# Altium schematic symbol library Device.SchLib: 595 symbols (part 1 of 4)
Pins are listed as number, name and electrical type; pins without a type are passive.

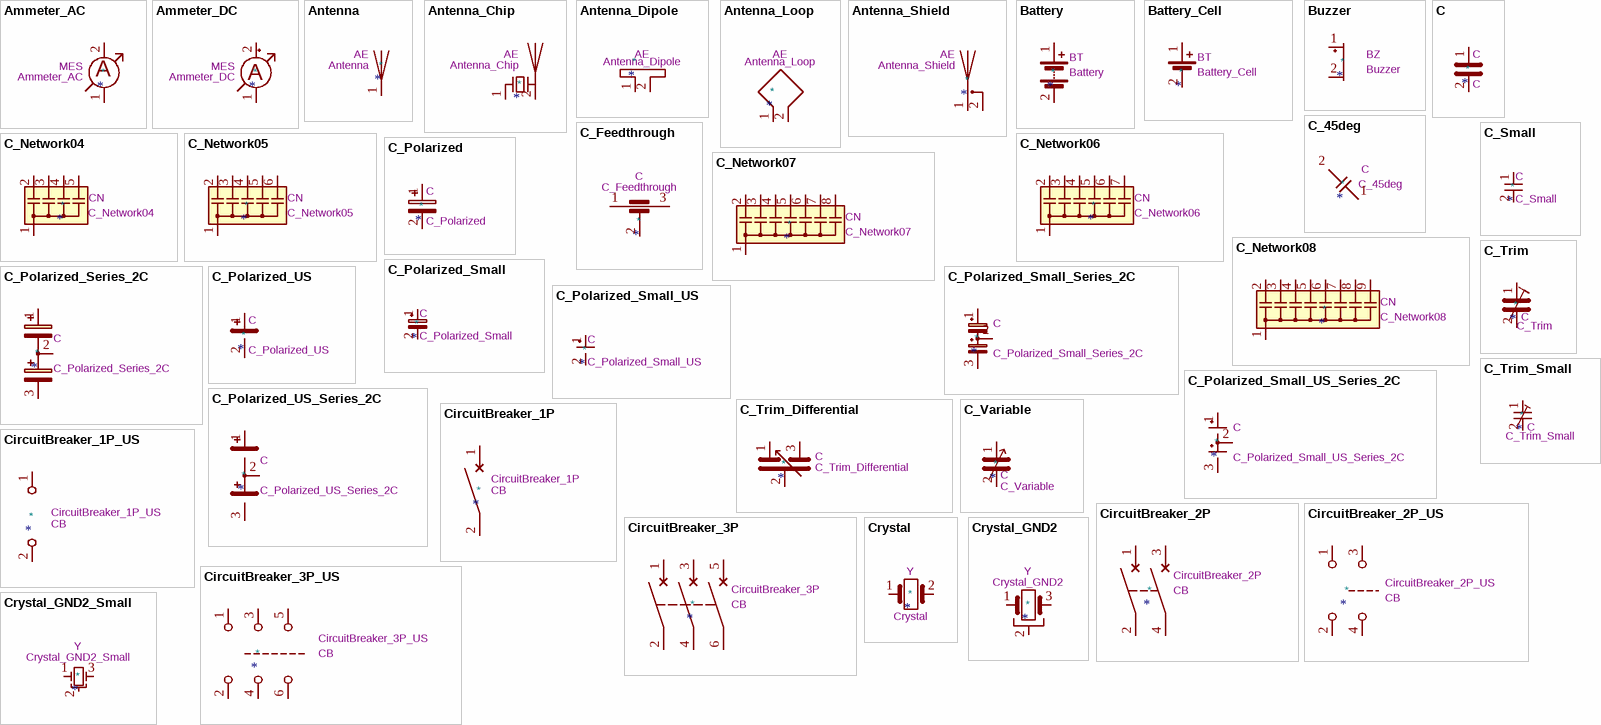
[diagram p0: symbols Ammeter_AC to Crystal_GND2_Small]

## Ammeter_AC
designator *  value Ammeter_AC  Reference: MES
AC ammeter; ki_keywords: ammeter AC ampere meter; Datasheet: ~; Description_: AC ammeter
pins: 1, 2
text: A

## Ammeter_DC
designator *  value Ammeter_DC  Reference: MES
DC ammeter; ki_keywords: ammeter DC ampere meter; Datasheet: ~; Description_: DC ammeter
pins: 1 -, 2 +
text: A

## Antenna
designator *  value Antenna  Reference: AE
Antenna; Datasheet: ~; Description_: Antenna; ki_keywords: antenna
pins: 1 A

## Antenna_Chip
designator *  value Antenna_Chip  Reference: AE
Ceramic chip antenna with pin for PCB trace; Datasheet: ~; Description_: Ceramic chip antenna with pin for PCB trace; ki_keywords: antenna
pins: 1 FEED, 2 PCB_Trace

## Antenna_Dipole
designator *  value Antenna_Dipole  Reference: AE
Dipole antenna; Datasheet: ~; Description_: Dipole antenna; ki_keywords: dipole antenna
pins: 1, 2

## Antenna_Loop
designator *  value Antenna_Loop  Reference: AE
Loop antenna; Datasheet: ~; Description_: Loop antenna; ki_keywords: loop antenna
pins: 1, 2

## Antenna_Shield
designator *  value Antenna_Shield  Reference: AE
Antenna with extra pin for shielding; Datasheet: ~; Description_: Antenna with extra pin for shielding; ki_keywords: antenna
pins: 1 A, 2 Shield

## Battery
designator *  value Battery  Reference: BT
Multiple-cell battery; ki_keywords: batt voltage-source cell; Datasheet: ~; Description_: Multiple-cell battery
pins: 1 +, 2 -

## Battery_Cell
designator *  value Battery_Cell  Reference: BT
Single-cell battery; ki_keywords: battery cell; Datasheet: ~; Description_: Single-cell battery
pins: 1 +, 2 -

## Buzzer
designator *  value Buzzer  Reference: BZ
Buzzer, polarized; ki_keywords: quartz resonator ceramic; ki_fp_filters: *Buzzer*; Datasheet: ~; Description_: Buzzer, polarized
pins: 1 +, 2 -

## C
designator *  value C
Unpolarized capacitor; ki_keywords: cap capacitor; ki_fp_filters: C_*; Reference: C; Datasheet: ~; Description_: Unpolarized capacitor
pins: 1, 2

## C_45deg
designator *  value C_45deg  Reference: C
Unpolarized capacitor, rotated by 45°; ki_keywords: capacitor cap; ki_fp_filters: R_*; Datasheet: ~; Description_: Unpolarized capacitor, rotated by 45°
pins: 1, 2

## C_Feedthrough
designator *  value C_Feedthrough  Reference: C
Feedthrough capacitor; ki_keywords: EMI filter feedthrough capacitor; Datasheet: ~; Description_: Feedthrough capacitor
pins: 1, 2, 3

## C_Network04
designator *  value C_Network04  Reference: CN
4 capacitor network, star topology, bussed capacitors, single bus pin, small symbol, SIP-5; ki_keywords: C network star-topology; ki_fp_filters: C*Array* SIP*; Datasheet: ~; Description_: 4 capacitor network, star topology, bussed capacitors, single bus pin, small symbol, SIP-5
pins: 1 common, 2 C1, 3 C2, 4 C3, 5 C4

## C_Network05
designator *  value C_Network05  Reference: CN
5 capacitor network, star topology, bussed capacitors, single bus pin, small symbol, SIP-6; ki_keywords: C network star-topology; ki_fp_filters: C*Array* SIP*; Datasheet: ~; Description_: 5 capacitor network, star topology, bussed capacitors, single bus pin, small symbol, SIP-6
pins: 1 common, 2 C1, 3 C2, 4 C3, 5 C4, 6 C5

## C_Network06
designator *  value C_Network06  Reference: CN
6 capacitor network, star topology, bussed capacitors, single bus pin, small symbol, SIP-7; ki_keywords: C network star-topology; ki_fp_filters: C*Array* SIP*; Datasheet: ~; Description_: 6 capacitor network, star topology, bussed capacitors, single bus pin, small symbol, SIP-7
pins: 1 common, 2 C1, 3 C2, 4 C3, 5 C4, 6 C5, 7 C6

## C_Network07
designator *  value C_Network07  Reference: CN
7 capacitor network, star topology, bussed capacitors, single bus pin, small symbol, SIP-8; ki_keywords: C network star-topology; ki_fp_filters: C*Array* SIP*; Datasheet: ~; Description_: 7 capacitor network, star topology, bussed capacitors, single bus pin, small symbol, SIP-8
pins: 1 common, 2 C1, 3 C2, 4 C3, 5 C4, 6 C5, 7 C6, 8 C7

## C_Network08
designator *  value C_Network08  Reference: CN
8 capacitor network, star topology, bussed capacitors, single bus pin, small symbol, SIP-9; ki_keywords: C network star-topology; ki_fp_filters: C*Array* SIP*; Datasheet: ~; Description_: 8 capacitor network, star topology, bussed capacitors, single bus pin, small symbol, SIP-9
pins: 1 common, 2 C1, 3 C2, 4 C3, 5 C4, 6 C5, 7 C6, 8 C7, 9 C8

## C_Polarized
designator *  value C_Polarized  Reference: C
Polarized capacitor; ki_keywords: cap capacitor; ki_fp_filters: CP_*; Datasheet: ~; Description_: Polarized capacitor
pins: 1, 2

## C_Polarized_Series_2C
designator *  value C_Polarized_Series_2C  Reference: C
Set of two polarized capacitors in series; ki_keywords: cap capacitor; ki_fp_filters: CP*; Datasheet: ~; Description_: Set of two polarized capacitors in series
pins: 1, 2, 3

## C_Polarized_Small
designator *  value C_Polarized_Small  Reference: C
Polarized capacitor, small symbol; ki_keywords: cap capacitor; ki_fp_filters: CP_*; Datasheet: ~; Description_: Polarized capacitor, small symbol
pins: 1, 2

## C_Polarized_Small_Series_2C
designator *  value C_Polarized_Small_Series_2C  Reference: C
Set of two polarized capacitors in series, small symbol; ki_keywords: cap capacitor; ki_fp_filters: CP*; Datasheet: ~; Description_: Set of two polarized capacitors in series, small symbol
pins: 1, 2, 3

## C_Polarized_Small_US
designator *  value C_Polarized_Small_US  Reference: C
Polarized capacitor, small US symbol; ki_keywords: cap capacitor; ki_fp_filters: CP_*; Datasheet: ~; Description_: Polarized capacitor, small US symbol
pins: 1, 2

## C_Polarized_Small_US_Series_2C
designator *  value C_Polarized_Small_US_Series_2C  Reference: C
Polarized capacitor, small US symbol; ki_keywords: cap capacitor; ki_fp_filters: CP*; Datasheet: ~; Description_: Polarized capacitor, small US symbol
pins: 1, 2, 3

## C_Polarized_US
designator *  value C_Polarized_US  Reference: C
Polarized capacitor, US symbol; ki_keywords: cap capacitor; ki_fp_filters: CP_*; Datasheet: ~; Description_: Polarized capacitor, US symbol
pins: 1, 2

## C_Polarized_US_Series_2C
designator *  value C_Polarized_US_Series_2C  Reference: C
Polarized capacitor, US symbol; ki_keywords: cap capacitor; ki_fp_filters: CP*; Datasheet: ~; Description_: Polarized capacitor, US symbol
pins: 1, 2, 3

## C_Small
designator *  value C_Small  Reference: C
Unpolarized capacitor, small symbol; ki_keywords: capacitor cap; ki_fp_filters: C_*; Datasheet: ~; Description_: Unpolarized capacitor, small symbol
pins: 1, 2

## C_Trim
designator *  value C_Trim  Reference: C
Trimmable capacitor; ki_keywords: trimmer variable capacitor; Datasheet: ~; Description_: Trimmable capacitor
pins: 1, 2

## C_Trim_Differential
designator *  value C_Trim_Differential  Reference: C
Differential variable capacitor with two stators; ki_keywords: trimmer capacitor; Datasheet: ~; Description_: Differential variable capacitor with two stators
pins: 1, 2, 3

## C_Trim_Small
designator *  value C_Trim_Small  Reference: C
Trimmable capacitor, small symbol; ki_keywords: trimmer variable capacitor; ki_fp_filters: C_*; Datasheet: ~; Description_: Trimmable capacitor, small symbol
pins: 1, 2

## C_Variable
designator *  value C_Variable  Reference: C
Variable capacitor; ki_keywords: trimmer capacitor; Datasheet: ~; Description_: Variable capacitor
pins: 1, 2

## CircuitBreaker_1P
designator *  value CircuitBreaker_1P  Reference: CB
Single pole circuit breaker; Datasheet: ~; Description_: Single pole circuit breaker; ki_keywords: CB
pins: 1, 2

## CircuitBreaker_1P_US
designator *  value CircuitBreaker_1P_US  Reference: CB
Single pole circuit breaker, US symbol; Datasheet: ~; Description_: Single pole circuit breaker, US symbol; ki_keywords: CB
pins: 1, 2

## CircuitBreaker_2P
designator *  value CircuitBreaker_2P  Reference: CB
Double pole circuit breaker; ki_keywords: CB 2P; Datasheet: ~; Description_: Double pole circuit breaker
pins: 1, 2, 3, 4

## CircuitBreaker_2P_US
designator *  value CircuitBreaker_2P_US  Reference: CB
Double pole circuit breaker, US symbol; ki_keywords: CB 2P; Datasheet: ~; Description_: Double pole circuit breaker, US symbol
pins: 1, 2, 3, 4

## CircuitBreaker_3P
designator *  value CircuitBreaker_3P  Reference: CB
Triple pole circuit breaker; ki_keywords: CB 3P; Datasheet: ~; Description_: Triple pole circuit breaker
pins: 1, 2, 3, 4, 5, 6

## CircuitBreaker_3P_US
designator *  value CircuitBreaker_3P_US  Reference: CB
Triple pole circuit breaker, US symbol; ki_keywords: CB 3P; Datasheet: ~; Description_: Triple pole circuit breaker, US symbol
pins: 1, 2, 3, 4, 5, 6

## Crystal
designator *  value Crystal  Reference: Y
Two pin crystal; ki_keywords: quartz ceramic resonator oscillator; ki_fp_filters: Crystal*; Datasheet: ~; Description_: Two pin crystal
pins: 1, 2

## Crystal_GND2
designator *  value Crystal_GND2  Reference: Y
Three pin crystal, GND on pin 2; ki_keywords: quartz ceramic resonator oscillator; ki_fp_filters: Crystal*; Datasheet: ~; Description_: Three pin crystal, GND on pin 2
pins: 1, 2, 3

## Crystal_GND2_Small
designator *  value Crystal_GND2_Small  Reference: Y
Three pin crystal, GND on pin 2, small symbol; ki_keywords: quartz ceramic resonator oscillator; ki_fp_filters: Crystal*; Datasheet: ~; Description_: Three pin crystal, GND on pin 2, small symbol
pins: 1, 2, 3

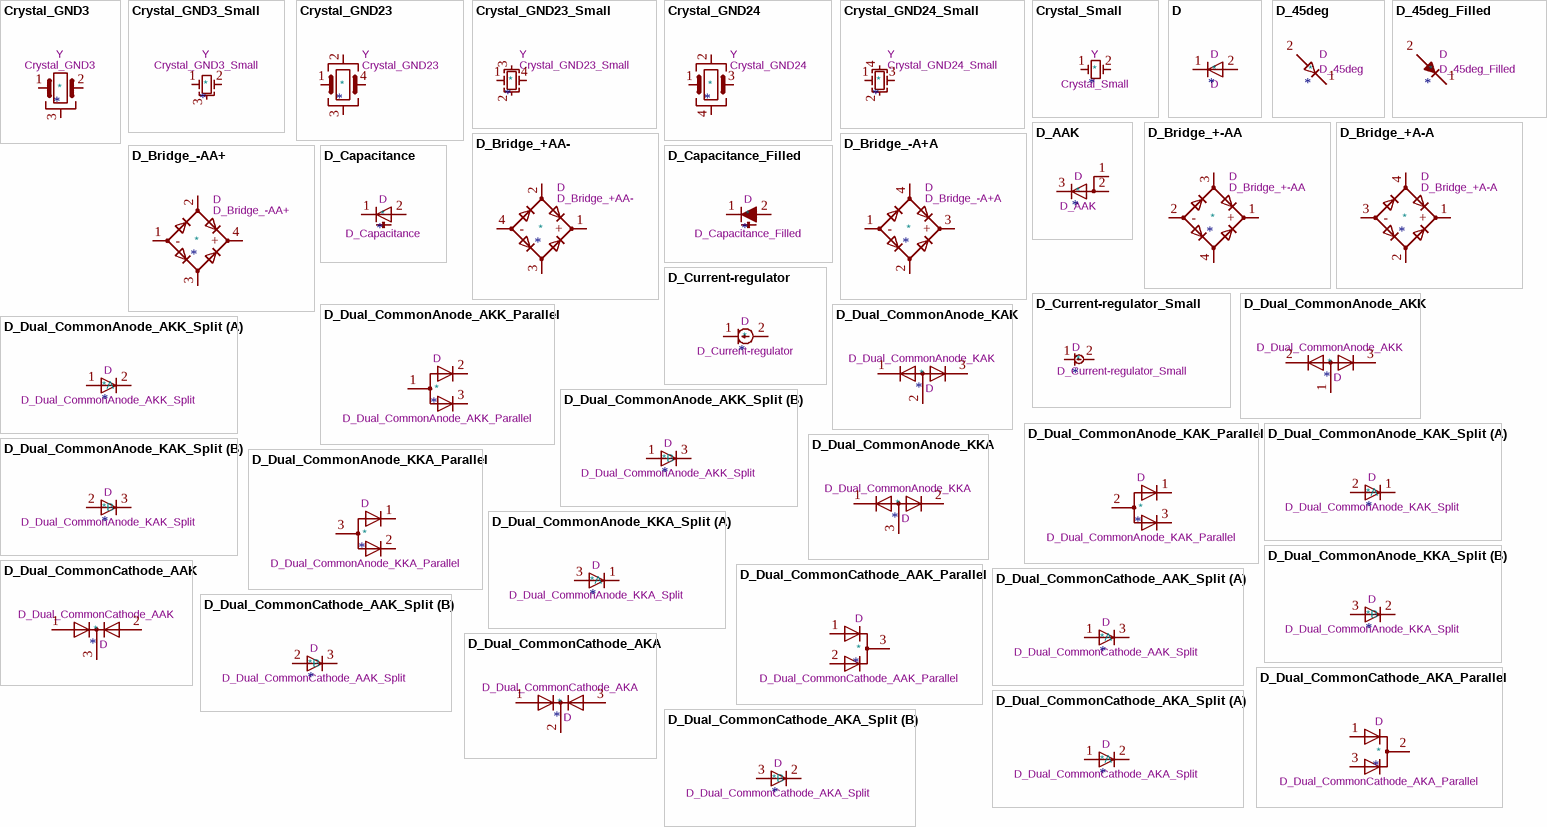
[diagram p1: symbols Crystal_GND3 to D_Dual_CommonCathode_AKA_Split]

## Crystal_GND3
designator *  value Crystal_GND3  Reference: Y
Three pin crystal, GND on pin 3; ki_keywords: quartz ceramic resonator oscillator; ki_fp_filters: Crystal*; Datasheet: ~; Description_: Three pin crystal, GND on pin 3
pins: 1, 2, 3

## Crystal_GND3_Small
designator *  value Crystal_GND3_Small  Reference: Y
Three pin crystal, GND on pin 3, small symbol; ki_keywords: quartz ceramic resonator oscillator; ki_fp_filters: Crystal*; Datasheet: ~; Description_: Three pin crystal, GND on pin 3, small symbol
pins: 1, 2, 3

## Crystal_GND23
designator *  value Crystal_GND23  Reference: Y
Four pin crystal, GND on pins 2 and 3; ki_keywords: quartz ceramic resonator oscillator; ki_fp_filters: Crystal*; Datasheet: ~; Description_: Four pin crystal, GND on pins 2 and 3
pins: 1, 2, 3, 4

## Crystal_GND23_Small
designator *  value Crystal_GND23_Small  Reference: Y
Four pin crystal, GND on pins 2 and 3, small symbol; ki_keywords: quartz ceramic resonator oscillator; ki_fp_filters: Crystal*; Datasheet: ~; Description_: Four pin crystal, GND on pins 2 and 3, small symbol
pins: 1, 2, 3, 4

## Crystal_GND24
designator *  value Crystal_GND24  Reference: Y
Four pin crystal, GND on pins 2 and 4; ki_keywords: quartz ceramic resonator oscillator; ki_fp_filters: Crystal*; Datasheet: ~; Description_: Four pin crystal, GND on pins 2 and 4
pins: 1, 2, 3, 4

## Crystal_GND24_Small
designator *  value Crystal_GND24_Small  Reference: Y
Four pin crystal, GND on pins 2 and 4, small symbol; ki_keywords: quartz ceramic resonator oscillator; ki_fp_filters: Crystal*; Datasheet: ~; Description_: Four pin crystal, GND on pins 2 and 4, small symbol
pins: 1, 2, 3, 4

## Crystal_Small
designator *  value Crystal_Small  Reference: Y
Two pin crystal, small symbol; ki_keywords: quartz ceramic resonator oscillator; ki_fp_filters: Crystal*; Datasheet: ~; Description_: Two pin crystal, small symbol
pins: 1, 2

## D
designator *  value D
Diode; Sim.Pins: 1=K 2=A; ki_fp_filters: TO-???* *_Diode_* *SingleDiode* D_*; Reference: D; Datasheet: ~; Description_: Diode; Sim.Device: D; ki_keywords: diode
pins: 1 K, 2 A

## D_45deg
designator *  value D_45deg  Reference: D
Diode, rotated by 45°; Sim.Pins: 1=K 2=A; ki_fp_filters: D*Bridge* D*Rectifier*; Datasheet: ~; Description_: Diode, rotated by 45°; Sim.Device: D; ki_keywords: Diode
pins: 1 K, 2 A

## D_45deg_Filled
designator *  value D_45deg_Filled  Reference: D
Diode, filled, rotated by 45°; Sim.Pins: 1=K 2=A; ki_fp_filters: D*Bridge* D*Rectifier*; Datasheet: ~; Description_: Diode, filled, rotated by 45°; Sim.Device: D; ki_keywords: Diode
pins: 1 K, 2 A

## D_AAK
designator *  value D_AAK  Reference: D
Diode, anode on pins 1 and 2; ki_fp_filters: TO-???* *_Diode_* *SingleDiode* D_*; Datasheet: ~; Description_: Diode, anode on pins 1 and 2; ki_keywords: diode
pins: 1 A, 2 A, 3 K

## D_Bridge_+-AA
designator *  value D_Bridge_+-AA  Reference: D
Diode bridge, +ve/-ve/AC/AC; ki_keywords: rectifier ACDC; ki_fp_filters: D*Bridge* D*Rectifier*; Datasheet: ~; Description_: Diode bridge, +ve/-ve/AC/AC
pins: 1 +, 2 -, 3, 4

## D_Bridge_+A-A
designator *  value D_Bridge_+A-A  Reference: D
Diode bridge, +ve/AC/-ve/AC; ki_keywords: rectifier ACDC; ki_fp_filters: D*Bridge* D*Rectifier*; Datasheet: ~; Description_: Diode bridge, +ve/AC/-ve/AC
pins: 1 +, 2, 3 -, 4

## D_Bridge_+AA-
designator *  value D_Bridge_+AA-  Reference: D
Diode bridge, +ve/AC/AC/-ve; ki_keywords: rectifier ACDC; ki_fp_filters: D*Bridge* D*Rectifier*; Datasheet: ~; Description_: Diode bridge, +ve/AC/AC/-ve
pins: 1 +, 2, 3, 4 -

## D_Bridge_-A+A
designator *  value D_Bridge_-A+A  Reference: D
Diode bridge, -ve/AC/+ve/AC; ki_keywords: rectifier ACDC; ki_fp_filters: D*Bridge* D*Rectifier*; Datasheet: ~; Description_: Diode bridge, -ve/AC/+ve/AC
pins: 1 -, 2, 3 +, 4

## D_Bridge_-AA+
designator *  value D_Bridge_-AA+  Reference: D
Diode bridge, -ve/AC/AC/+ve; ki_keywords: rectifier ACDC; ki_fp_filters: D*Bridge* D*Rectifier*; Datasheet: ~; Description_: Diode bridge, -ve/AC/AC/+ve
pins: 1 -, 2, 3, 4 +

## D_Capacitance
designator *  value D_Capacitance  Reference: D
Variable capacitance diode; ki_keywords: capacitance diode varicap varactor; ki_fp_filters: TO-???* *_Diode_* *SingleDiode* D_*; Datasheet: ~; Description_: Variable capacitance diode
pins: 1 K, 2 A

## D_Capacitance_Filled
designator *  value D_Capacitance_Filled  Reference: D
Variable capacitance diode, filled shape; ki_keywords: capacitance diode varicap varactor; ki_fp_filters: TO-???* *_Diode_* *SingleDiode* D_*; Datasheet: ~; Description_: Variable capacitance diode, filled shape
pins: 1 K, 2 A

## D_Current-regulator
designator *  value D_Current-regulator  Reference: D
Constant-current diode / current limiting diode / current regulator diode, IEC60747-3:2013; ki_keywords: diode constant-current current limit regulator; ki_fp_filters: TO-???* D_*; Datasheet: ~; Description_: Constant-current diode / current limiting diode / current regulator diode, IEC60747-3:2013
pins: 1 K, 2 A

## D_Current-regulator_Small
designator *  value D_Current-regulator_Small  Reference: D
Constant-current diode / current limiting diode / current regulator diode, IEC60747-3:2013, small symbol; ki_keywords: diode constant-current current limit regulator; ki_fp_filters: TO-???* D_*; Datasheet: ~; Description_: Constant-current diode / current limiting diode / current regulator diode, IEC60747-3:2013, small symbol
pins: 1 K, 2 A

## D_Dual_CommonAnode_AKK
designator *  value D_Dual_CommonAnode_AKK  Reference: D
Dual diode, common anode on pin 1; Datasheet: ~; Description_: Dual diode, common anode on pin 1; ki_keywords: diode
pins: 1 A, 2 K, 3 K

## D_Dual_CommonAnode_AKK_Parallel
designator *  value D_Dual_CommonAnode_AKK_Parallel  Reference: D
Dual diode, common anode on pin 1; Datasheet: ~; Description_: Dual diode, common anode on pin 1; ki_keywords: diode
pins: 1 A, 2 K, 3 K

## D_Dual_CommonAnode_AKK_Split
designator *  value D_Dual_CommonAnode_AKK_Split  Reference: D
Dual diode, common anode on pin 1; Datasheet: ~; Description_: Dual diode, common anode on pin 1; ki_keywords: diode
part A pins: 1 A, 2 K
part B pins: 1 A, 3 K

## D_Dual_CommonAnode_KAK
designator *  value D_Dual_CommonAnode_KAK  Reference: D
Dual diode, common anode on pin 2; Datasheet: ~; Description_: Dual diode, common anode on pin 2; ki_keywords: diode
pins: 1 K, 2 A, 3 K

## D_Dual_CommonAnode_KAK_Parallel
designator *  value D_Dual_CommonAnode_KAK_Parallel  Reference: D
Dual diode, common anode on pin 1; Datasheet: ~; Description_: Dual diode, common anode on pin 1; ki_keywords: diode
pins: 1 K, 2 A, 3 K

## D_Dual_CommonAnode_KAK_Split
designator *  value D_Dual_CommonAnode_KAK_Split  Reference: D
Dual diode, common anode on pin 1; Datasheet: ~; Description_: Dual diode, common anode on pin 1; ki_keywords: diode
part A pins: 1 K, 2 A
part B pins: 2 A, 3 K

## D_Dual_CommonAnode_KKA
designator *  value D_Dual_CommonAnode_KKA  Reference: D
Dual diode, common anode on pin 3; Datasheet: ~; Description_: Dual diode, common anode on pin 3; ki_keywords: diode
pins: 1 K, 2 K, 3 A

## D_Dual_CommonAnode_KKA_Parallel
designator *  value D_Dual_CommonAnode_KKA_Parallel  Reference: D
Dual diode, common anode on pin 1; Datasheet: ~; Description_: Dual diode, common anode on pin 1; ki_keywords: diode
pins: 1 K, 2 K, 3 A

## D_Dual_CommonAnode_KKA_Split
designator *  value D_Dual_CommonAnode_KKA_Split  Reference: D
Dual diode, common anode on pin 1; Datasheet: ~; Description_: Dual diode, common anode on pin 1; ki_keywords: diode
part A pins: 1 K, 3 A
part B pins: 2 K, 3 A

## D_Dual_CommonCathode_AAK
designator *  value D_Dual_CommonCathode_AAK  Reference: D
Dual diode, common cathode on pin 3; Datasheet: ~; Description_: Dual diode, common cathode on pin 3; ki_keywords: diode
pins: 1 A, 2 A, 3 K

## D_Dual_CommonCathode_AAK_Parallel
designator *  value D_Dual_CommonCathode_AAK_Parallel  Reference: D
Dual diode, common cathode on pin 1; Datasheet: ~; Description_: Dual diode, common cathode on pin 1; ki_keywords: diode
pins: 1 A, 2 A, 3 K

## D_Dual_CommonCathode_AAK_Split
designator *  value D_Dual_CommonCathode_AAK_Split  Reference: D
Dual diode, common cathode on pin 1; Datasheet: ~; Description_: Dual diode, common cathode on pin 1; ki_keywords: diode
part A pins: 1 A, 3 K
part B pins: 2 A, 3 K

## D_Dual_CommonCathode_AKA
designator *  value D_Dual_CommonCathode_AKA  Reference: D
Dual diode, common cathode on pin 2; Datasheet: ~; Description_: Dual diode, common cathode on pin 2; ki_keywords: diode
pins: 1 A, 2 K, 3 A

## D_Dual_CommonCathode_AKA_Parallel
designator *  value D_Dual_CommonCathode_AKA_Parallel  Reference: D
Dual diode, common cathode on pin 1; Datasheet: ~; Description_: Dual diode, common cathode on pin 1; ki_keywords: diode
pins: 1 A, 2 K, 3 A

## D_Dual_CommonCathode_AKA_Split
designator *  value D_Dual_CommonCathode_AKA_Split  Reference: D
Dual diode, common cathode on pin 1; Datasheet: ~; Description_: Dual diode, common cathode on pin 1; ki_keywords: diode
part A pins: 1 A, 2 K
part B pins: 2 K, 3 A

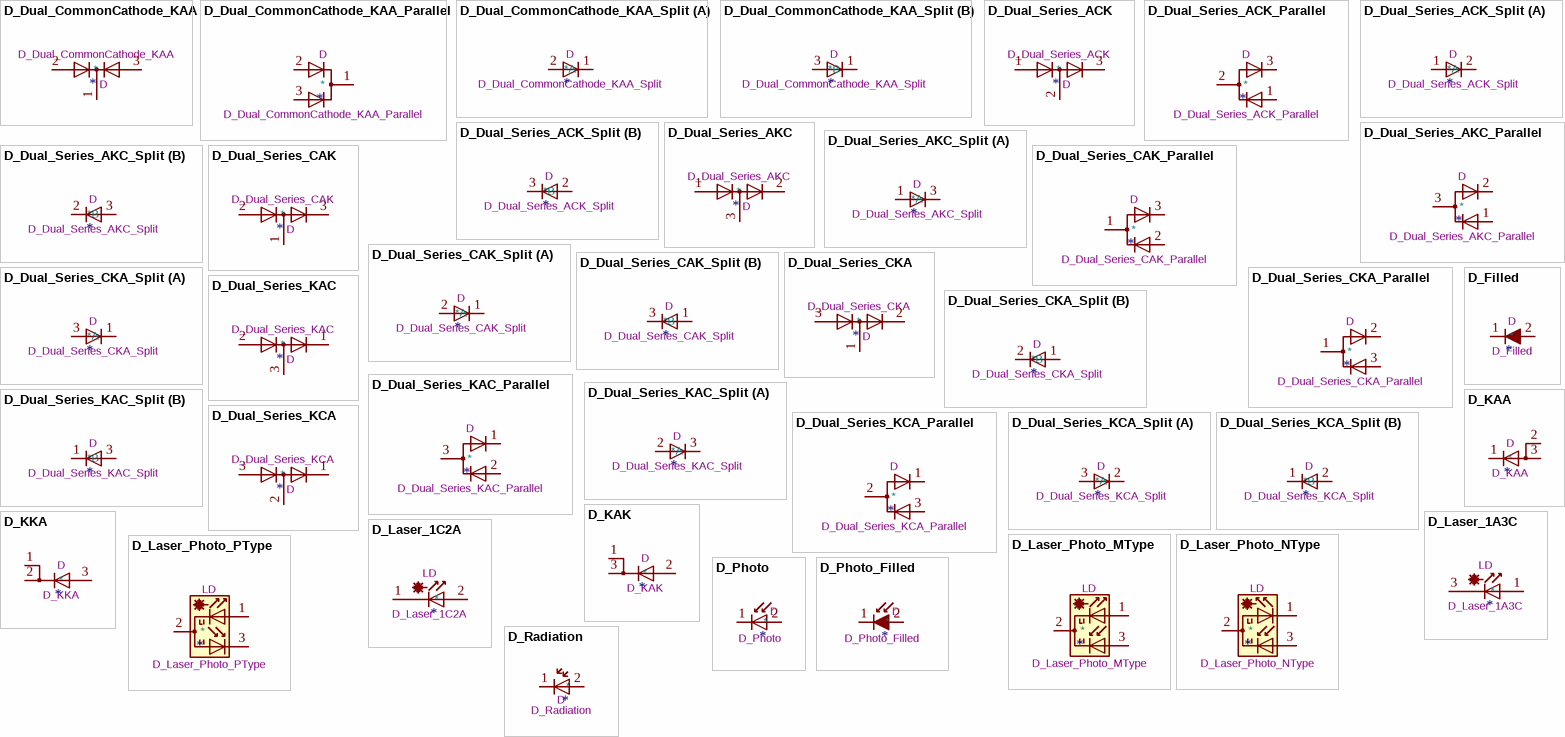
[diagram p2: symbols D_Dual_CommonCathode_KAA to D_Radiation]

## D_Dual_CommonCathode_KAA
designator *  value D_Dual_CommonCathode_KAA  Reference: D
Dual diode, common cathode on pin 1; Datasheet: ~; Description_: Dual diode, common cathode on pin 1; ki_keywords: diode
pins: 1 K, 2 A, 3 A

## D_Dual_CommonCathode_KAA_Parallel
designator *  value D_Dual_CommonCathode_KAA_Parallel  Reference: D
Dual diode, common cathode on pin 1; Datasheet: ~; Description_: Dual diode, common cathode on pin 1; ki_keywords: diode
pins: 1 K, 2 A, 3 A

## D_Dual_CommonCathode_KAA_Split
designator *  value D_Dual_CommonCathode_KAA_Split  Reference: D
Dual diode, common cathode on pin 1; Datasheet: ~; Description_: Dual diode, common cathode on pin 1; ki_keywords: diode
part A pins: 1 K, 2 A
part B pins: 1 K, 3 A

## D_Dual_Series_ACK
designator *  value D_Dual_Series_ACK  Reference: D
Dual diode, anode/center/cathode; Datasheet: ~; Description_: Dual diode, anode/center/cathode; ki_keywords: diode
pins: 1 A, 2 common, 3 K

## D_Dual_Series_ACK_Parallel
designator *  value D_Dual_Series_ACK_Parallel  Reference: D
Dual diode, anode/center/cathode; Datasheet: ~; Description_: Dual diode, anode/center/cathode; ki_keywords: diode
pins: 1 A, 2 common, 3 K

## D_Dual_Series_ACK_Split
designator *  value D_Dual_Series_ACK_Split  Reference: D
Dual diode, anode/center/cathode; Datasheet: ~; Description_: Dual diode, anode/center/cathode; ki_keywords: diode
part A pins: 1 A, 2 common
part B pins: 2 common, 3 K

## D_Dual_Series_AKC
designator *  value D_Dual_Series_AKC  Reference: D
Dual diode, anode/cathode/center; Datasheet: ~; Description_: Dual diode, anode/cathode/center; ki_keywords: diode
pins: 1 A, 2 K, 3 common

## D_Dual_Series_AKC_Parallel
designator *  value D_Dual_Series_AKC_Parallel  Reference: D
Dual diode, anode/cathode/center; Datasheet: ~; Description_: Dual diode, anode/cathode/center; ki_keywords: diode
pins: 1 A, 2 K, 3 common

## D_Dual_Series_AKC_Split
designator *  value D_Dual_Series_AKC_Split  Reference: D
Dual diode, anode/cathode/center; Datasheet: ~; Description_: Dual diode, anode/cathode/center; ki_keywords: diode
part A pins: 1 A, 3 K
part B pins: 2 common, 3 K

## D_Dual_Series_CAK
designator *  value D_Dual_Series_CAK  Reference: D
Dual diode, center/anode/cathode; Datasheet: ~; Description_: Dual diode, center/anode/cathode; ki_keywords: diode
pins: 1 common, 2 A, 3 K

## D_Dual_Series_CAK_Parallel
designator *  value D_Dual_Series_CAK_Parallel  Reference: D
Dual diode, center/anode/cathode; Datasheet: ~; Description_: Dual diode, center/anode/cathode; ki_keywords: diode
pins: 1 common, 2 A, 3 K

## D_Dual_Series_CAK_Split
designator *  value D_Dual_Series_CAK_Split  Reference: D
Dual diode, center/anode/cathode; Datasheet: ~; Description_: Dual diode, center/anode/cathode; ki_keywords: diode
part A pins: 1 common, 2 A
part B pins: 1 common, 3 K

## D_Dual_Series_CKA
designator *  value D_Dual_Series_CKA  Reference: D
Dual diode, center/cathode/anode; Datasheet: ~; Description_: Dual diode, center/cathode/anode; ki_keywords: diode
pins: 1 common, 2 K, 3 A

## D_Dual_Series_CKA_Parallel
designator *  value D_Dual_Series_CKA_Parallel  Reference: D
Dual diode, center/cathode/anode; Datasheet: ~; Description_: Dual diode, center/cathode/anode; ki_keywords: diode
pins: 1 common, 2 K, 3 A

## D_Dual_Series_CKA_Split
designator *  value D_Dual_Series_CKA_Split  Reference: D
Dual diode, center/cathode/anode; Datasheet: ~; Description_: Dual diode, center/cathode/anode; ki_keywords: diode
part A pins: 1 common, 3 A
part B pins: 1 common, 2 K

## D_Dual_Series_KAC
designator *  value D_Dual_Series_KAC  Reference: D
Dual diode, cathode/anode/center; Datasheet: ~; Description_: Dual diode, cathode/anode/center; ki_keywords: diode
pins: 1 K, 2 A, 3 common

## D_Dual_Series_KAC_Parallel
designator *  value D_Dual_Series_KAC_Parallel  Reference: D
Dual diode, cathode/anode/center; Datasheet: ~; Description_: Dual diode, cathode/anode/center; ki_keywords: diode
pins: 1 K, 2 A, 3 common

## D_Dual_Series_KAC_Split
designator *  value D_Dual_Series_KAC_Split  Reference: D
Dual diode, cathode/anode/center; Datasheet: ~; Description_: Dual diode, cathode/anode/center; ki_keywords: diode
part A pins: 2 A, 3 common
part B pins: 1 K, 3 common

## D_Dual_Series_KCA
designator *  value D_Dual_Series_KCA  Reference: D
Dual diode, cathode/center/anode; Datasheet: ~; Description_: Dual diode, cathode/center/anode; ki_keywords: diode
pins: 1 K, 2 common, 3 A

## D_Dual_Series_KCA_Parallel
designator *  value D_Dual_Series_KCA_Parallel  Reference: D
Dual diode, cathode/center/anode; Datasheet: ~; Description_: Dual diode, cathode/center/anode; ki_keywords: diode
pins: 1 K, 2 common, 3 A

## D_Dual_Series_KCA_Split
designator *  value D_Dual_Series_KCA_Split  Reference: D
Dual diode, cathode/center/anode; Datasheet: ~; Description_: Dual diode, cathode/center/anode; ki_keywords: diode
part A pins: 2 common, 3 A
part B pins: 1 K, 2 common

## D_Filled
designator *  value D_Filled  Reference: D
Diode, filled shape; Sim.Pins: 1=K 2=A; ki_fp_filters: TO-???* *_Diode_* *SingleDiode* D_*; Datasheet: ~; Description_: Diode, filled shape; Sim.Device: D; ki_keywords: diode
pins: 1 K, 2 A

## D_KAA
designator *  value D_KAA  Reference: D
Diode, anode on pins 2 and 3; ki_fp_filters: TO-???* *_Diode_* *SingleDiode* D_*; Datasheet: ~; Description_: Diode, anode on pins 2 and 3; ki_keywords: diode
pins: 1 K, 2 A, 3 A

## D_KAK
designator *  value D_KAK  Reference: D
Diode, cathode on pins 1 and 3; ki_fp_filters: TO-???* *_Diode_* *SingleDiode* D_*; Datasheet: ~; Description_: Diode, cathode on pins 1 and 3; ki_keywords: diode
pins: 1 K, 2 A, 3 K

## D_KKA
designator *  value D_KKA  Reference: D
Diode, cathode on pins 1 and 2; ki_fp_filters: TO-???* *_Diode_* *SingleDiode* D_*; Datasheet: ~; Description_: Diode, cathode on pins 1 and 2; ki_keywords: diode
pins: 1 K, 2 K, 3 A

## D_Laser_1A3C
designator *  value D_Laser_1A3C  Reference: LD
Laser diode, cathode on pin 3, anode on pin 1; ki_keywords: opto laserdiode; ki_fp_filters: *LaserDiode*; Datasheet: ~; Description_: Laser diode, cathode on pin 3, anode on pin 1
pins: 1 A, 3 K

## D_Laser_1C2A
designator *  value D_Laser_1C2A  Reference: LD
Laser diode, cathode on pin 1, anode on pin 2; ki_keywords: opto laserdiode; ki_fp_filters: *LaserDiode*; Datasheet: ~; Description_: Laser diode, cathode on pin 1, anode on pin 2
pins: 1 K, 2 A

## D_Laser_Photo_MType
designator *  value D_Laser_Photo_MType  Reference: LD
Laser diode with photodiode, common cathode on pin 2; ki_keywords: opto laserdiode photodiode; ki_fp_filters: *LaserDiode*; Datasheet: http://www.egismos.disonhu.com/laser/diode-package.htm; Description_: Laser diode with photodiode, common cathode on pin 2
pins: 1, 2, 3

## D_Laser_Photo_NType
designator *  value D_Laser_Photo_NType  Reference: LD
Laser diode with photodiode, center on pin 2, LD cathode on pin 1; ki_keywords: opto laserdiode photodiode; ki_fp_filters: *LaserDiode*; Datasheet: http://www.egismos.disonhu.com/laser/diode-package.htm; Description_: Laser diode with photodiode, center on pin 2, LD cathode on pin 1
pins: 1, 2, 3

## D_Laser_Photo_PType
designator *  value D_Laser_Photo_PType  Reference: LD
Laser diode with photodiode, center on pin 2, PD cathode on pin 3; ki_keywords: opto laserdiode photodiode; ki_fp_filters: *LaserDiode*; Datasheet: http://www.egismos.disonhu.com/laser/diode-package.htm; Description_: Laser diode with photodiode, center on pin 2, PD cathode on pin 3
pins: 1, 2, 3

## D_Photo
designator *  value D_Photo  Reference: D
Photodiode; ki_keywords: photodiode diode opto; Datasheet: ~; Description_: Photodiode
pins: 1 K, 2 A

## D_Photo_Filled
designator *  value D_Photo_Filled  Reference: D
Photodiode, filled shape; ki_keywords: photodiode diode opto; Datasheet: ~; Description_: Photodiode, filled shape
pins: 1 K, 2 A

## D_Radiation
designator *  value D_Radiation  Reference: D
Semiconductor radiation detector; ki_keywords: radiation detector diode; Datasheet: ~; Description_: Semiconductor radiation detector
pins: 1 K, 2 A

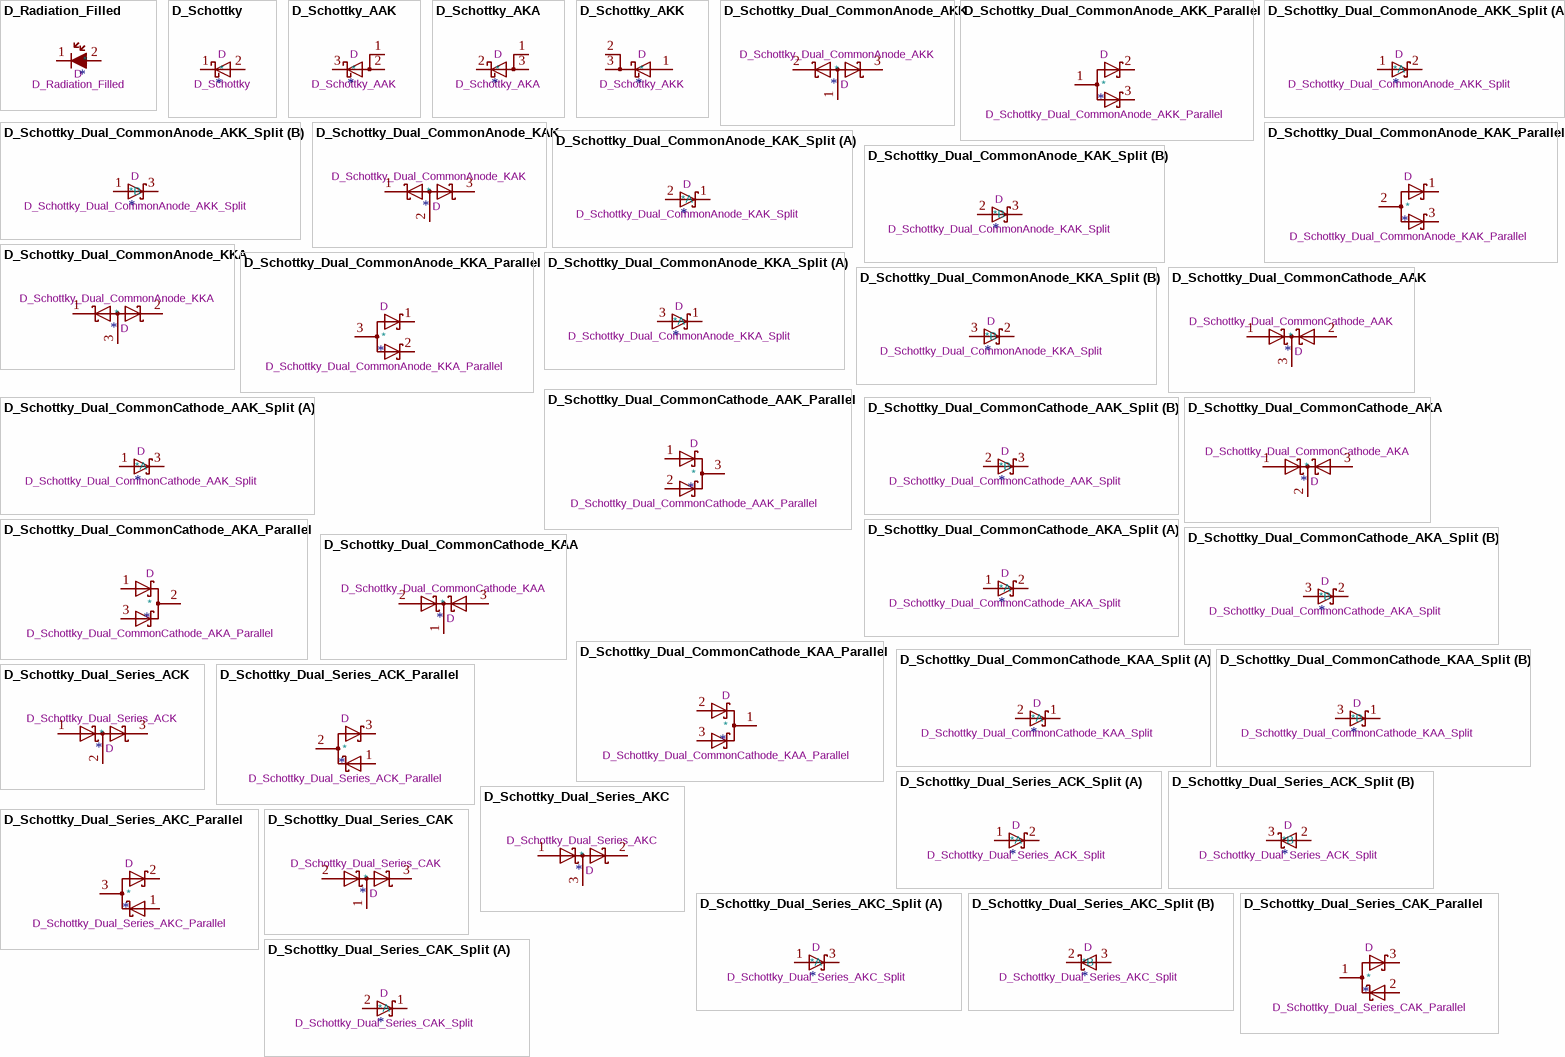
[diagram p3: symbols D_Radiation_Filled to D_Schottky_Dual_Series_CAK_Split]

## D_Radiation_Filled
designator *  value D_Radiation_Filled  Reference: D
Semiconductor radiation detector, filled shape; ki_keywords: radiation detector diode; Datasheet: ~; Description_: Semiconductor radiation detector, filled shape
pins: 1 K, 2 A

## D_Schottky
designator *  value D_Schottky  Reference: D
Schottky diode; ki_keywords: diode Schottky; ki_fp_filters: TO-???* *_Diode_* *SingleDiode* D_*; Datasheet: ~; Description_: Schottky diode
pins: 1 K, 2 A

## D_Schottky_AAK
designator *  value D_Schottky_AAK  Reference: D
Schottky diode, anode on pins 1 and 2; ki_keywords: diode Schottky SCHDPAK; ki_fp_filters: TO-???* *_Diode_* *SingleDiode* D_*; Datasheet: ~; Description_: Schottky diode, anode on pins 1 and 2
pins: 1 A, 2 A, 3 K

## D_Schottky_AKA
designator *  value D_Schottky_AKA  Reference: D
Schottky diode, anode on pins 1 and 3; ki_keywords: diode Schottky SCHDPAK; ki_fp_filters: TO-???* *_Diode_* *SingleDiode* D_*; Datasheet: ~; Description_: Schottky diode, anode on pins 1 and 3
pins: 1 A, 2 K, 3 A

## D_Schottky_AKK
designator *  value D_Schottky_AKK  Reference: D
Schottky diode, cathode on pins 2 and 3; ki_keywords: diode Schottky SCHDPAK; ki_fp_filters: TO-???* *_Diode_* *SingleDiode* D_*; Datasheet: ~; Description_: Schottky diode, cathode on pins 2 and 3
pins: 1 A, 2 K, 3 K

## D_Schottky_Dual_CommonAnode_AKK
designator *  value D_Schottky_Dual_CommonAnode_AKK  Reference: D
Dual Schottky diode, common anode on pin 1; Datasheet: ~; Description_: Dual Schottky diode, common anode on pin 1; ki_keywords: diode
pins: 1 A, 2 K, 3 K

## D_Schottky_Dual_CommonAnode_AKK_Parallel
designator *  value D_Schottky_Dual_CommonAnode_AKK_Parallel  Reference: D
Dual Schottky diode, common anode on pin 1; Datasheet: ~; Description_: Dual Schottky diode, common anode on pin 1; ki_keywords: diode
pins: 1 A, 2 K, 3 K

## D_Schottky_Dual_CommonAnode_AKK_Split
designator *  value D_Schottky_Dual_CommonAnode_AKK_Split  Reference: D
Dual Schottky diode, common anode on pin 1; Datasheet: ~; Description_: Dual Schottky diode, common anode on pin 1; ki_keywords: diode
part A pins: 1 A, 2 K
part B pins: 1 A, 3 K

## D_Schottky_Dual_CommonAnode_KAK
designator *  value D_Schottky_Dual_CommonAnode_KAK  Reference: D
Dual Schottky diode, common anode on pin 2; Datasheet: ~; Description_: Dual Schottky diode, common anode on pin 2; ki_keywords: diode
pins: 1 K, 2 A, 3 K

## D_Schottky_Dual_CommonAnode_KAK_Parallel
designator *  value D_Schottky_Dual_CommonAnode_KAK_Parallel  Reference: D
Dual Schottky diode, common anode on pin 1; Datasheet: ~; Description_: Dual Schottky diode, common anode on pin 1; ki_keywords: diode
pins: 1 K, 2 A, 3 K

## D_Schottky_Dual_CommonAnode_KAK_Split
designator *  value D_Schottky_Dual_CommonAnode_KAK_Split  Reference: D
Dual Schottky diode, common anode on pin 1; Datasheet: ~; Description_: Dual Schottky diode, common anode on pin 1; ki_keywords: diode
part A pins: 1 K, 2 A
part B pins: 2 A, 3 K

## D_Schottky_Dual_CommonAnode_KKA
designator *  value D_Schottky_Dual_CommonAnode_KKA  Reference: D
Dual Schottky diode, common anode on pin 3; Datasheet: ~; Description_: Dual Schottky diode, common anode on pin 3; ki_keywords: diode
pins: 1 K, 2 K, 3 A

## D_Schottky_Dual_CommonAnode_KKA_Parallel
designator *  value D_Schottky_Dual_CommonAnode_KKA_Parallel  Reference: D
Dual Schottky diode, common anode on pin 1; Datasheet: ~; Description_: Dual Schottky diode, common anode on pin 1; ki_keywords: diode
pins: 1 K, 2 K, 3 A

## D_Schottky_Dual_CommonAnode_KKA_Split
designator *  value D_Schottky_Dual_CommonAnode_KKA_Split  Reference: D
Dual Schottky diode, common anode on pin 1; Datasheet: ~; Description_: Dual Schottky diode, common anode on pin 1; ki_keywords: diode
part A pins: 1 K, 3 A
part B pins: 2 K, 3 A

## D_Schottky_Dual_CommonCathode_AAK
designator *  value D_Schottky_Dual_CommonCathode_AAK  Reference: D
Dual Schottky diode, common cathode on pin 3; Datasheet: ~; Description_: Dual Schottky diode, common cathode on pin 3; ki_keywords: diode
pins: 1 A, 2 A, 3 K

## D_Schottky_Dual_CommonCathode_AAK_Parallel
designator *  value D_Schottky_Dual_CommonCathode_AAK_Parallel  Reference: D
Dual Schottky diode, common cathode on pin 3; Datasheet: ~; Description_: Dual Schottky diode, common cathode on pin 3; ki_keywords: diode
pins: 1 A, 2 A, 3 K

## D_Schottky_Dual_CommonCathode_AAK_Split
designator *  value D_Schottky_Dual_CommonCathode_AAK_Split  Reference: D
Dual Schottky diode, common cathode on pin 3; Datasheet: ~; Description_: Dual Schottky diode, common cathode on pin 3; ki_keywords: diode
part A pins: 1 A, 3 K
part B pins: 2 A, 3 K

## D_Schottky_Dual_CommonCathode_AKA
designator *  value D_Schottky_Dual_CommonCathode_AKA  Reference: D
Dual Schottky diode, common cathode on pin 2; Datasheet: ~; Description_: Dual Schottky diode, common cathode on pin 2; ki_keywords: diode
pins: 1 A, 2 K, 3 A

## D_Schottky_Dual_CommonCathode_AKA_Parallel
designator *  value D_Schottky_Dual_CommonCathode_AKA_Parallel  Reference: D
Dual Schottky diode, common anode on pin 1; Datasheet: ~; Description_: Dual Schottky diode, common anode on pin 1; ki_keywords: diode
pins: 1 A, 2 K, 3 A

## D_Schottky_Dual_CommonCathode_AKA_Split
designator *  value D_Schottky_Dual_CommonCathode_AKA_Split  Reference: D
Dual Schottky diode, common anode on pin 1; Datasheet: ~; Description_: Dual Schottky diode, common anode on pin 1; ki_keywords: diode
part A pins: 1 A, 2 K
part B pins: 2 K, 3 A

## D_Schottky_Dual_CommonCathode_KAA
designator *  value D_Schottky_Dual_CommonCathode_KAA  Reference: D
Dual Schottky diode, common cathode on pin 1; Datasheet: ~; Description_: Dual Schottky diode, common cathode on pin 1; ki_keywords: diode
pins: 1 K, 2 A, 3 A

## D_Schottky_Dual_CommonCathode_KAA_Parallel
designator *  value D_Schottky_Dual_CommonCathode_KAA_Parallel  Reference: D
Dual Schottky diode, common anode on pin 1; Datasheet: ~; Description_: Dual Schottky diode, common anode on pin 1; ki_keywords: diode
pins: 1 A, 2 K, 3 K

## D_Schottky_Dual_CommonCathode_KAA_Split
designator *  value D_Schottky_Dual_CommonCathode_KAA_Split  Reference: D
Dual Schottky diode, common anode on pin 1; Datasheet: ~; Description_: Dual Schottky diode, common anode on pin 1; ki_keywords: diode
part A pins: 1 K, 2 A
part B pins: 1 K, 3 K

## D_Schottky_Dual_Series_ACK
designator *  value D_Schottky_Dual_Series_ACK  Reference: D
Dual Schottky diode, anode/center/cathode; Datasheet: ~; Description_: Dual Schottky diode, anode/center/cathode; ki_keywords: diode
pins: 1 A, 2 common, 3 K

## D_Schottky_Dual_Series_ACK_Parallel
designator *  value D_Schottky_Dual_Series_ACK_Parallel  Reference: D
Dual Schottky diode, anode/center/cathode; Datasheet: ~; Description_: Dual Schottky diode, anode/center/cathode; ki_keywords: diode
pins: 1 K, 2 A, 3 K

## D_Schottky_Dual_Series_ACK_Split
designator *  value D_Schottky_Dual_Series_ACK_Split  Reference: D
Dual Schottky diode, anode/center/cathode; Datasheet: ~; Description_: Dual Schottky diode, anode/center/cathode; ki_keywords: diode
part A pins: 1 A, 2 K
part B pins: 2 K, 3 K

## D_Schottky_Dual_Series_AKC
designator *  value D_Schottky_Dual_Series_AKC  Reference: D
Dual Schottky diode, anode/cathode/center; Datasheet: ~; Description_: Dual Schottky diode, anode/cathode/center; ki_keywords: diode
pins: 1 A, 2 K, 3 common

## D_Schottky_Dual_Series_AKC_Parallel
designator *  value D_Schottky_Dual_Series_AKC_Parallel  Reference: D
Dual Schottky diode, anode/cathode/center; Datasheet: ~; Description_: Dual Schottky diode, anode/cathode/center; ki_keywords: diode
pins: 1 K, 2 K, 3 A

## D_Schottky_Dual_Series_AKC_Split
designator *  value D_Schottky_Dual_Series_AKC_Split  Reference: D
Dual Schottky diode, anode/cathode/center; Datasheet: ~; Description_: Dual Schottky diode, anode/cathode/center; ki_keywords: diode
part A pins: 1 A, 3 K
part B pins: 2 K, 3 K

## D_Schottky_Dual_Series_CAK
designator *  value D_Schottky_Dual_Series_CAK  Reference: D
Dual Schottky diode, center/anode/cathode; Datasheet: ~; Description_: Dual Schottky diode, center/anode/cathode; ki_keywords: diode
pins: 1 common, 2 A, 3 K

## D_Schottky_Dual_Series_CAK_Parallel
designator *  value D_Schottky_Dual_Series_CAK_Parallel  Reference: D
Dual Schottky diode, center/anode/cathode; Datasheet: ~; Description_: Dual Schottky diode, center/anode/cathode; ki_keywords: diode
pins: 1 A, 2 K, 3 K

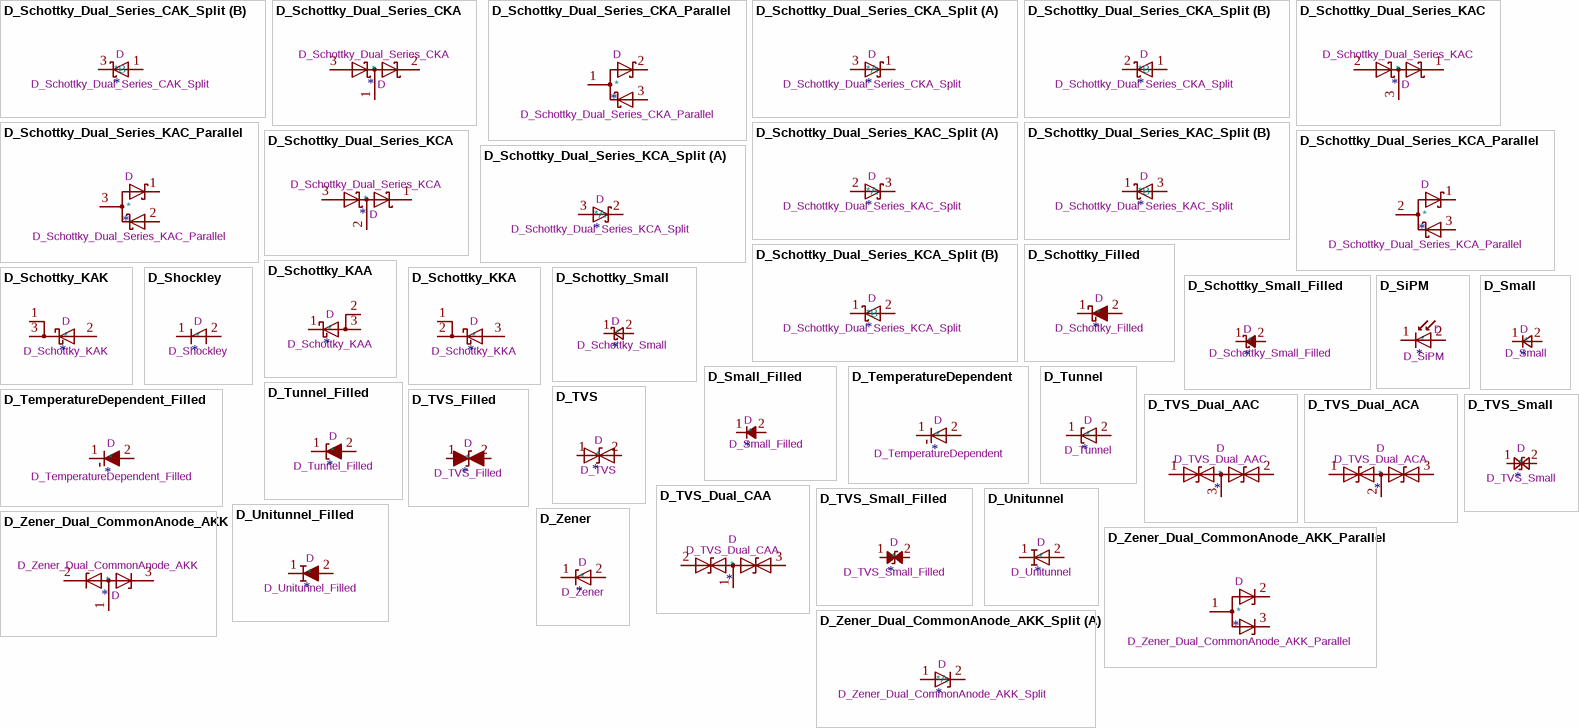
[diagram p4: symbols D_Schottky_Dual_Series_CAK_Split to D_Zener_Dual_CommonAnode_AKK_Split]

## D_Schottky_Dual_Series_CAK_Split
designator *  value D_Schottky_Dual_Series_CAK_Split  Reference: D
Dual Schottky diode, center/anode/cathode; Datasheet: ~; Description_: Dual Schottky diode, center/anode/cathode; ki_keywords: diode
part A pins: 1 K, 2 A
part B pins: 1 K, 3 K

## D_Schottky_Dual_Series_CKA
designator *  value D_Schottky_Dual_Series_CKA  Reference: D
Dual Schottky diode, center/cathode/anode; Datasheet: ~; Description_: Dual Schottky diode, center/cathode/anode; ki_keywords: diode
pins: 1 common, 2 K, 3 A

## D_Schottky_Dual_Series_CKA_Parallel
designator *  value D_Schottky_Dual_Series_CKA_Parallel  Reference: D
Dual Schottky diode, center/cathode/anode; Datasheet: ~; Description_: Dual Schottky diode, center/cathode/anode; ki_keywords: diode
pins: 1 A, 2 K, 3 K

## D_Schottky_Dual_Series_CKA_Split
designator *  value D_Schottky_Dual_Series_CKA_Split  Reference: D
Dual Schottky diode, center/cathode/anode; Datasheet: ~; Description_: Dual Schottky diode, center/cathode/anode; ki_keywords: diode
part A pins: 1 K, 3 A
part B pins: 1 K, 2 K

## D_Schottky_Dual_Series_KAC
designator *  value D_Schottky_Dual_Series_KAC  Reference: D
Dual Schottky diode, cathode/anode/center; Datasheet: ~; Description_: Dual Schottky diode, cathode/anode/center; ki_keywords: diode
pins: 1 K, 2 A, 3 common

## D_Schottky_Dual_Series_KAC_Parallel
designator *  value D_Schottky_Dual_Series_KAC_Parallel  Reference: D
Dual Schottky diode, cathode/anode/center; Datasheet: ~; Description_: Dual Schottky diode, cathode/anode/center; ki_keywords: diode
pins: 1 K, 2 K, 3 A

## D_Schottky_Dual_Series_KAC_Split
designator *  value D_Schottky_Dual_Series_KAC_Split  Reference: D
Dual Schottky diode, cathode/anode/center; Datasheet: ~; Description_: Dual Schottky diode, cathode/anode/center; ki_keywords: diode
part A pins: 2 A, 3 K
part B pins: 1 K, 3 K

## D_Schottky_Dual_Series_KCA
designator *  value D_Schottky_Dual_Series_KCA  Reference: D
Dual Schottky diode, cathode/center/anode; Datasheet: ~; Description_: Dual Schottky diode, cathode/center/anode; ki_keywords: diode
pins: 1 K, 2 common, 3 A

## D_Schottky_Dual_Series_KCA_Parallel
designator *  value D_Schottky_Dual_Series_KCA_Parallel  Reference: D
Dual Schottky diode, cathode/center/anode; Datasheet: ~; Description_: Dual Schottky diode, cathode/center/anode; ki_keywords: diode
pins: 1 K, 2 A, 3 K

## D_Schottky_Dual_Series_KCA_Split
designator *  value D_Schottky_Dual_Series_KCA_Split  Reference: D
Dual Schottky diode, cathode/center/anode; Datasheet: ~; Description_: Dual Schottky diode, cathode/center/anode; ki_keywords: diode
part A pins: 2 K, 3 A
part B pins: 1 K, 2 K

## D_Schottky_Filled
designator *  value D_Schottky_Filled  Reference: D
Schottky diode, filled shape; ki_keywords: diode Schottky; ki_fp_filters: TO-???* *_Diode_* *SingleDiode* D_*; Datasheet: ~; Description_: Schottky diode, filled shape
pins: 1 K, 2 A

## D_Schottky_KAA
designator *  value D_Schottky_KAA  Reference: D
Schottky diode, anode on pins 2 and 3; ki_keywords: diode Schottky SCHDPAK; ki_fp_filters: TO-???* *_Diode_* *SingleDiode* D_*; Datasheet: ~; Description_: Schottky diode, anode on pins 2 and 3
pins: 1 K, 2 A, 3 A

## D_Schottky_KAK
designator *  value D_Schottky_KAK  Reference: D
Schottky diode, cathode on pins 1 and 3; ki_keywords: diode Schottky SCHDPAK; ki_fp_filters: TO-???* *_Diode_* *SingleDiode* D_*; Datasheet: ~; Description_: Schottky diode, cathode on pins 1 and 3
pins: 1 K, 2 A, 3 K

## D_Schottky_KKA
designator *  value D_Schottky_KKA  Reference: D
Schottky diode, cathode on pins 1 and 2; ki_keywords: diode Schottky SCHDPAK; ki_fp_filters: TO-???* *_Diode_* *SingleDiode* D_*; Datasheet: ~; Description_: Schottky diode, cathode on pins 1 and 2
pins: 1 K, 2 K, 3 A

## D_Schottky_Small
designator *  value D_Schottky_Small  Reference: D
Schottky diode, small symbol; ki_keywords: diode Schottky; ki_fp_filters: TO-???* *_Diode_* *SingleDiode* D_*; Datasheet: ~; Description_: Schottky diode, small symbol
pins: 1 K, 2 A

## D_Schottky_Small_Filled
designator *  value D_Schottky_Small_Filled  Reference: D
Schottky diode, small symbol, filled shape; ki_keywords: diode Schottky; ki_fp_filters: TO-???* *_Diode_* *SingleDiode* D_*; Datasheet: ~; Description_: Schottky diode, small symbol, filled shape
pins: 1 K, 2 A

## D_Shockley
designator *  value D_Shockley  Reference: D
Shockley (PNPN) diode; ki_keywords: Shockley diode PNPN; ki_fp_filters: TO-???* *_Diode_* *SingleDiode* D_*; Datasheet: ~; Description_: Shockley (PNPN) diode
pins: 1 K, 2 A

## D_SiPM
designator *  value D_SiPM  Reference: D
Silicon photomultiplier; ki_keywords: SiPM MPPC SPAD photon counting; ki_fp_filters: MPPC*; Datasheet: ~; Description_: Silicon photomultiplier
pins: 1 K, 2 A

## D_Small
designator *  value D_Small  Reference: D
Diode, small symbol; Sim.Pins: 1=K 2=A; ki_fp_filters: TO-???* *_Diode_* *SingleDiode* D_*; Datasheet: ~; Description_: Diode, small symbol; Sim.Device: D; ki_keywords: diode
pins: 1 K, 2 A

## D_Small_Filled
designator *  value D_Small_Filled  Reference: D
Diode, small symbol, filled shape; Sim.Pins: 1=K 2=A; ki_fp_filters: TO-???* *_Diode_* *SingleDiode* D_*; Datasheet: ~; Description_: Diode, small symbol, filled shape; Sim.Device: D; ki_keywords: diode
pins: 1 K, 2 A

## D_TemperatureDependent
designator *  value D_TemperatureDependent  Reference: D
Temperature dependent diode; ki_keywords: temperature sensor diode; ki_fp_filters: TO-???* *_Diode_* *SingleDiode* D_*; Datasheet: ~; Description_: Temperature dependent diode
pins: 1 K, 2 A

## D_TemperatureDependent_Filled
designator *  value D_TemperatureDependent_Filled  Reference: D
Temperature dependent diode, filled shape; ki_keywords: temperature sensor diode; ki_fp_filters: TO-???* *_Diode_* *SingleDiode* D_*; Datasheet: ~; Description_: Temperature dependent diode, filled shape
pins: 1 K, 2 A

## D_Tunnel
designator *  value D_Tunnel  Reference: D
Tunnel diode (Esaki diode); ki_fp_filters: TO-???* *_Diode_* *SingleDiode* D_*; Datasheet: ~; Description_: Tunnel diode (Esaki diode); ki_keywords: tunnel diode
pins: 1 K, 2 A

## D_Tunnel_Filled
designator *  value D_Tunnel_Filled  Reference: D
Tunnel diode (Esaki diode), filled shape; ki_fp_filters: TO-???* *_Diode_* *SingleDiode* D_*; Datasheet: ~; Description_: Tunnel diode (Esaki diode), filled shape; ki_keywords: tunnel diode
pins: 1 K, 2 A

## D_TVS
designator *  value D_TVS  Reference: D
Bidirectional transient-voltage-suppression diode; ki_keywords: diode TVS thyrector; ki_fp_filters: TO-???* *_Diode_* *SingleDiode* D_*; Datasheet: ~; Description_: Bidirectional transient-voltage-suppression diode
pins: 1 A1, 2 A2

## D_TVS_Dual_AAC
designator *  value D_TVS_Dual_AAC  Reference: D
Bidirectional dual transient-voltage-suppression diode, center on pin 3; ki_keywords: diode TVS thyrector; Datasheet: ~; Description_: Bidirectional dual transient-voltage-suppression diode, center on pin 3
pins: 1 A1, 2 A2, 3 common

## D_TVS_Dual_ACA
designator *  value D_TVS_Dual_ACA  Reference: D
Bidirectional dual transient-voltage-suppression diode, center on pin 2; ki_keywords: diode TVS thyrector; Datasheet: ~; Description_: Bidirectional dual transient-voltage-suppression diode, center on pin 2
pins: 1 A1, 2 common, 3 A2

## D_TVS_Dual_CAA
designator *  value D_TVS_Dual_CAA  Reference: D
Bidirectional dual transient-voltage-suppression diode, center on pin 1; ki_keywords: diode TVS thyrector; Datasheet: ~; Description_: Bidirectional dual transient-voltage-suppression diode, center on pin 1
pins: 1 common, 2 A1, 3 A2

## D_TVS_Filled
designator *  value D_TVS_Filled  Reference: D
Bidirectional transient-voltage-suppression diode, filled shape; ki_keywords: diode TVS thyrector; ki_fp_filters: TO-???* *_Diode_* *SingleDiode* D_*; Datasheet: ~; Description_: Bidirectional transient-voltage-suppression diode, filled shape
pins: 1 A1, 2 A2

## D_TVS_Small
designator *  value D_TVS_Small  Reference: D
Bidirectional transient-voltage-suppression diode, small symbol; ki_keywords: diode TVS thyrector; ki_fp_filters: TO-???* *_Diode_* *SingleDiode* D_*; Datasheet: ~; Description_: Bidirectional transient-voltage-suppression diode, small symbol
pins: 1 A1, 2 A2

## D_TVS_Small_Filled
designator *  value D_TVS_Small_Filled  Reference: D
Bidirectional transient-voltage-suppression diode, small symbol, filled shape; ki_keywords: diode TVS thyrector; ki_fp_filters: TO-???* *_Diode_* *SingleDiode* D_*; Datasheet: ~; Description_: Bidirectional transient-voltage-suppression diode, small symbol, filled shape
pins: 1 A1, 2 A2

## D_Unitunnel
designator *  value D_Unitunnel  Reference: D
Unitunnel diode; ki_fp_filters: TO-???* *_Diode_* *SingleDiode* D_*; Datasheet: ~; Description_: Unitunnel diode; ki_keywords: unitunnel diode
pins: 1 K, 2 A

## D_Unitunnel_Filled
designator *  value D_Unitunnel_Filled  Reference: D
Unitunnel diode, filled shape; ki_fp_filters: TO-???* *_Diode_* *SingleDiode* D_*; Datasheet: ~; Description_: Unitunnel diode, filled shape; ki_keywords: unitunnel diode
pins: 1 K, 2 A

## D_Zener
designator *  value D_Zener  Reference: D
Zener diode; ki_fp_filters: TO-???* *_Diode_* *SingleDiode* D_*; Datasheet: ~; Description_: Zener diode; ki_keywords: diode
pins: 1 K, 2 A

## D_Zener_Dual_CommonAnode_AKK
designator *  value D_Zener_Dual_CommonAnode_AKK  Reference: D
Dual Zener diode, common anode on pin 1; ki_keywords: diode zener dual; ki_fp_filters: SOT* SC*; Datasheet: ~; Description_: Dual Zener diode, common anode on pin 1
pins: 1 A, 2 K, 3 K

## D_Zener_Dual_CommonAnode_AKK_Parallel
designator *  value D_Zener_Dual_CommonAnode_AKK_Parallel  Reference: D
Dual Zener diode, common anode on pin 1; Datasheet: ~; Description_: Dual Zener diode, common anode on pin 1; ki_keywords: diode
pins: 1 A, 2 K, 3 K

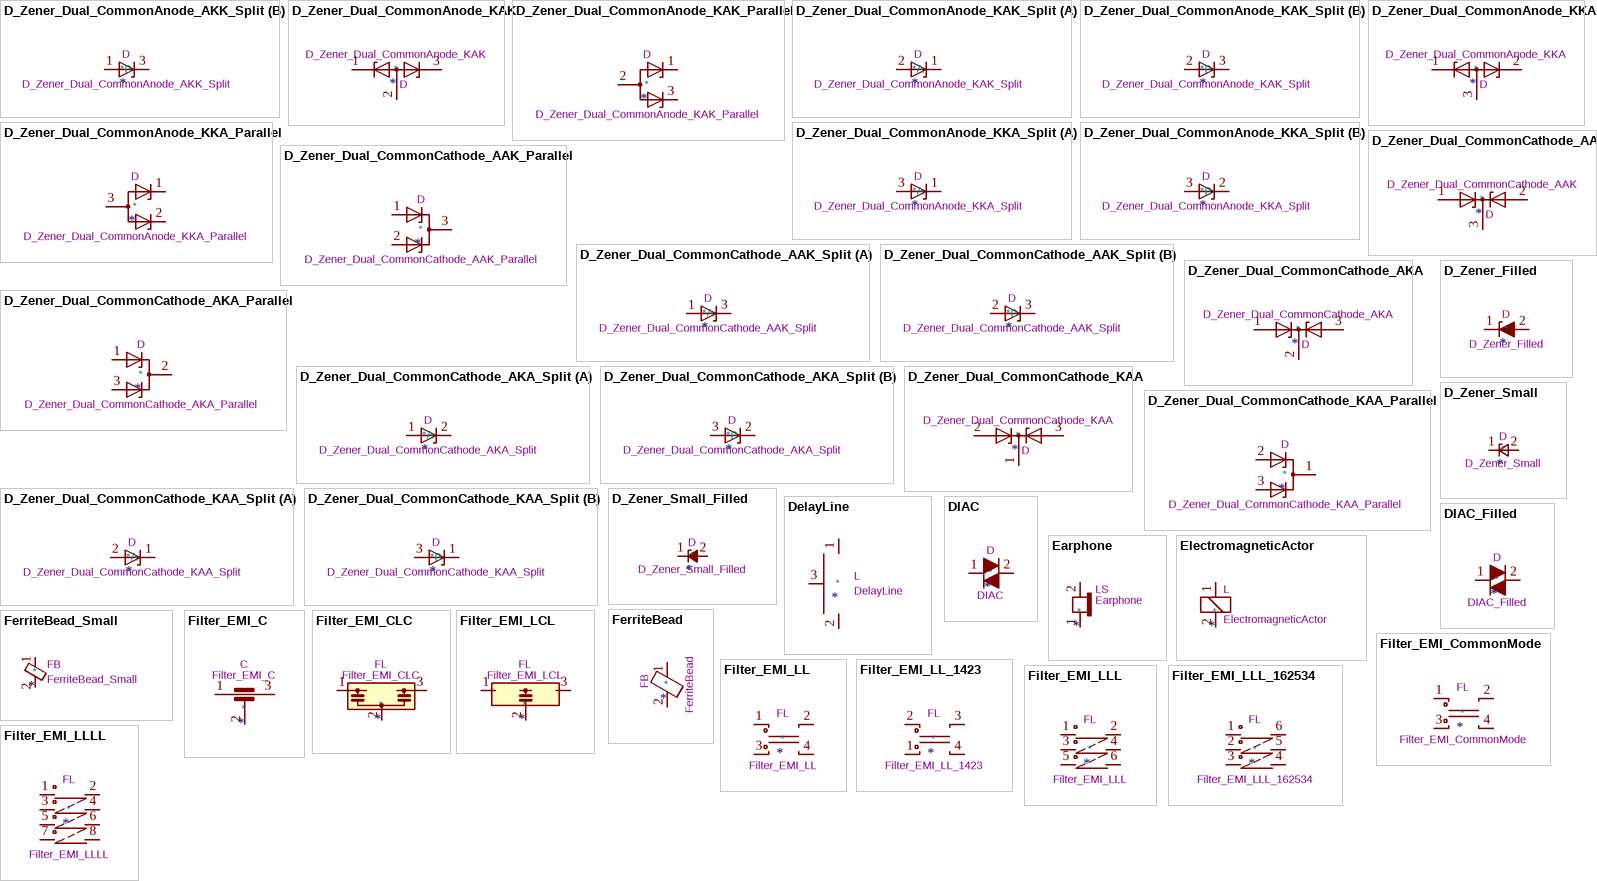
[diagram p5: symbols D_Zener_Dual_CommonAnode_AKK_Split to Filter_EMI_LLLL]

## D_Zener_Dual_CommonAnode_AKK_Split
designator *  value D_Zener_Dual_CommonAnode_AKK_Split  Reference: D
Dual Zener diode, common anode on pin 1; Datasheet: ~; Description_: Dual Zener diode, common anode on pin 1; ki_keywords: diode
part A pins: 1 A, 2 K
part B pins: 1 A, 3 K

## D_Zener_Dual_CommonAnode_KAK
designator *  value D_Zener_Dual_CommonAnode_KAK  Reference: D
Dual Zener diode, common anode on pin 2; ki_keywords: diode zener dual; ki_fp_filters: SOT* SC*; Datasheet: ~; Description_: Dual Zener diode, common anode on pin 2
pins: 1 K, 2 A, 3 K

## D_Zener_Dual_CommonAnode_KAK_Parallel
designator *  value D_Zener_Dual_CommonAnode_KAK_Parallel  Reference: D
Dual Zener diode, common anode on pin 1; Datasheet: ~; Description_: Dual Zener diode, common anode on pin 1; ki_keywords: diode
pins: 1 K, 2 A, 3 K

## D_Zener_Dual_CommonAnode_KAK_Split
designator *  value D_Zener_Dual_CommonAnode_KAK_Split  Reference: D
Dual Zener diode, common anode on pin 1; Datasheet: ~; Description_: Dual Zener diode, common anode on pin 1; ki_keywords: diode
part A pins: 1 K, 2 A
part B pins: 2 A, 3 K

## D_Zener_Dual_CommonAnode_KKA
designator *  value D_Zener_Dual_CommonAnode_KKA  Reference: D
Dual Zener diode, common anode on pin 3; ki_keywords: diode zener dual; ki_fp_filters: SOT* SC*; Datasheet: ~; Description_: Dual Zener diode, common anode on pin 3
pins: 1 K, 2 K, 3 A

## D_Zener_Dual_CommonAnode_KKA_Parallel
designator *  value D_Zener_Dual_CommonAnode_KKA_Parallel  Reference: D
Dual Zener diode, common anode on pin 1; Datasheet: ~; Description_: Dual Zener diode, common anode on pin 1; ki_keywords: diode
pins: 1 K, 2 K, 3 A

## D_Zener_Dual_CommonAnode_KKA_Split
designator *  value D_Zener_Dual_CommonAnode_KKA_Split  Reference: D
Dual Zener diode, common anode on pin 1; Datasheet: ~; Description_: Dual Zener diode, common anode on pin 1; ki_keywords: diode
part A pins: 1 K, 3 A
part B pins: 2 K, 3 A

## D_Zener_Dual_CommonCathode_AAK
designator *  value D_Zener_Dual_CommonCathode_AAK  Reference: D
Dual Zener diode, common cathode on pin 3; ki_keywords: diode zener dual; ki_fp_filters: SOT* SC*; Datasheet: ~; Description_: Dual Zener diode, common cathode on pin 3
pins: 1 A, 2 A, 3 K

## D_Zener_Dual_CommonCathode_AAK_Parallel
designator *  value D_Zener_Dual_CommonCathode_AAK_Parallel  Reference: D
Dual Zener diode, common cathode on pin 3; Datasheet: ~; Description_: Dual Zener diode, common cathode on pin 3; ki_keywords: diode
pins: 1 A, 2 A, 3 K

## D_Zener_Dual_CommonCathode_AAK_Split
designator *  value D_Zener_Dual_CommonCathode_AAK_Split  Reference: D
Dual Zener diode, common cathode on pin 3; Datasheet: ~; Description_: Dual Zener diode, common cathode on pin 3; ki_keywords: diode
part A pins: 1 A, 3 K
part B pins: 2 A, 3 K

## D_Zener_Dual_CommonCathode_AKA
designator *  value D_Zener_Dual_CommonCathode_AKA  Reference: D
Dual Zener diode, common cathode on pin 2; ki_keywords: diode zener dual; ki_fp_filters: SOT* SC*; Datasheet: ~; Description_: Dual Zener diode, common cathode on pin 2
pins: 1 A, 2 K, 3 A

## D_Zener_Dual_CommonCathode_AKA_Parallel
designator *  value D_Zener_Dual_CommonCathode_AKA_Parallel  Reference: D
Dual Zener diode, common anode on pin 1; Datasheet: ~; Description_: Dual Zener diode, common anode on pin 1; ki_keywords: diode
pins: 1 A, 2 K, 3 A

## D_Zener_Dual_CommonCathode_AKA_Split
designator *  value D_Zener_Dual_CommonCathode_AKA_Split  Reference: D
Dual Zener diode, common anode on pin 1; Datasheet: ~; Description_: Dual Zener diode, common anode on pin 1; ki_keywords: diode
part A pins: 1 A, 2 K
part B pins: 2 K, 3 A

## D_Zener_Dual_CommonCathode_KAA
designator *  value D_Zener_Dual_CommonCathode_KAA  Reference: D
Dual Zener diode, common cathode on pin 1; ki_keywords: diode zener dual; ki_fp_filters: SOT* SC*; Datasheet: ~; Description_: Dual Zener diode, common cathode on pin 1
pins: 1 K, 2 A, 3 A

## D_Zener_Dual_CommonCathode_KAA_Parallel
designator *  value D_Zener_Dual_CommonCathode_KAA_Parallel  Reference: D
Dual Zener diode, common anode on pin 1; Datasheet: ~; Description_: Dual Zener diode, common anode on pin 1; ki_keywords: diode
pins: 1 A, 2 K, 3 K

## D_Zener_Dual_CommonCathode_KAA_Split
designator *  value D_Zener_Dual_CommonCathode_KAA_Split  Reference: D
Dual Zener diode, common anode on pin 1; Datasheet: ~; Description_: Dual Zener diode, common anode on pin 1; ki_keywords: diode
part A pins: 1 K, 2 A
part B pins: 1 K, 3 K

## D_Zener_Filled
designator *  value D_Zener_Filled  Reference: D
Zener diode, filled shape; ki_fp_filters: TO-???* *_Diode_* *SingleDiode* D_*; Datasheet: ~; Description_: Zener diode, filled shape; ki_keywords: diode
pins: 1 K, 2 A